# EAGLE library part LBT8402BW (library lbt8402)
LBT8402BW Clock LED Display Common Anode White Color 4 Digits 7 Segment 0.8inch
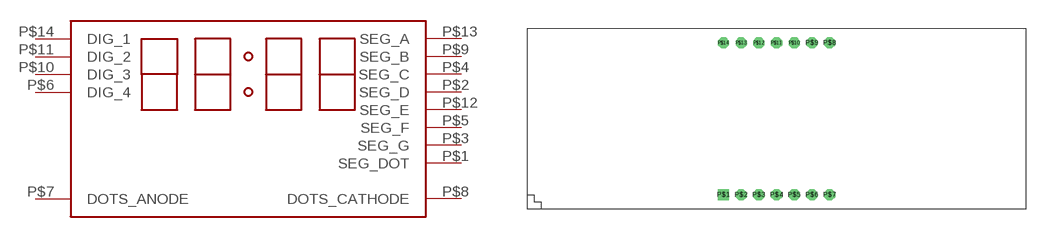
[diagram p0: symbol with the pads of LBT8402; footprint LBT8402]

Designator prefix -

## LBT8402BW  [LBT8402]
P$1  SEG_DOT
P$2  SEG_D
P$3  SEG_G
P$4  SEG_C
P$5  SEG_F
P$6  DIG_4
P$7  DOTS_ANODE
P$8  DOTS_CATHODE
P$9  SEG_B
P$10  DIG_3
P$11  DIG_2
P$12  SEG_E
P$13  SEG_A
P$14  DIG_1

## Footprint LBT8402 (pad centres in mm)
LBT8402 7 Segment LED display
drill 0.8 pad 1.6 square: P$1 28.18,2
drill 0.8 pad 1.6 octagon: P$2 30.72,2; P$3 33.26,2; P$4 35.8,2; P$5 38.34,2; P$6 40.88,2; P$7 43.42,2; P$8 43.42,23.8; P$9 40.88,23.8; P$10 38.34,23.8; P$11 35.8,23.8; P$12 33.26,23.8; P$13 30.72,23.8; P$14 28.18,23.8